# Altium schematic symbol library CAP 0.22uF 50V RADIAL.Schlib: 1 symbol
Pins are listed as number, name and electrical type; pins without a type are passive.

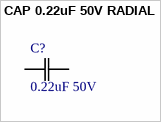
[diagram p0: symbol CAP 0.22uF 50V RADIAL]

## CAP 0.22uF 50V RADIAL
designator C?, comment 0.22uF 50V
CAP CER 0.22UF 50V X7R RADIAL
pins: 1 C1, 2 C2